# Altium footprint library my_battery.PCBLIB: 41 footprints (part 3 of 3)
Each footprint in its own frame and in the unit in brackets; x right, y up, seen from the top. Pads: shape width x height; smd on the part's side, far side on the other; paste and mask are expansions set on the pad; w line width, h text height; cw(c..) or ccw(c..) is an arc to the next point about the centre after c.
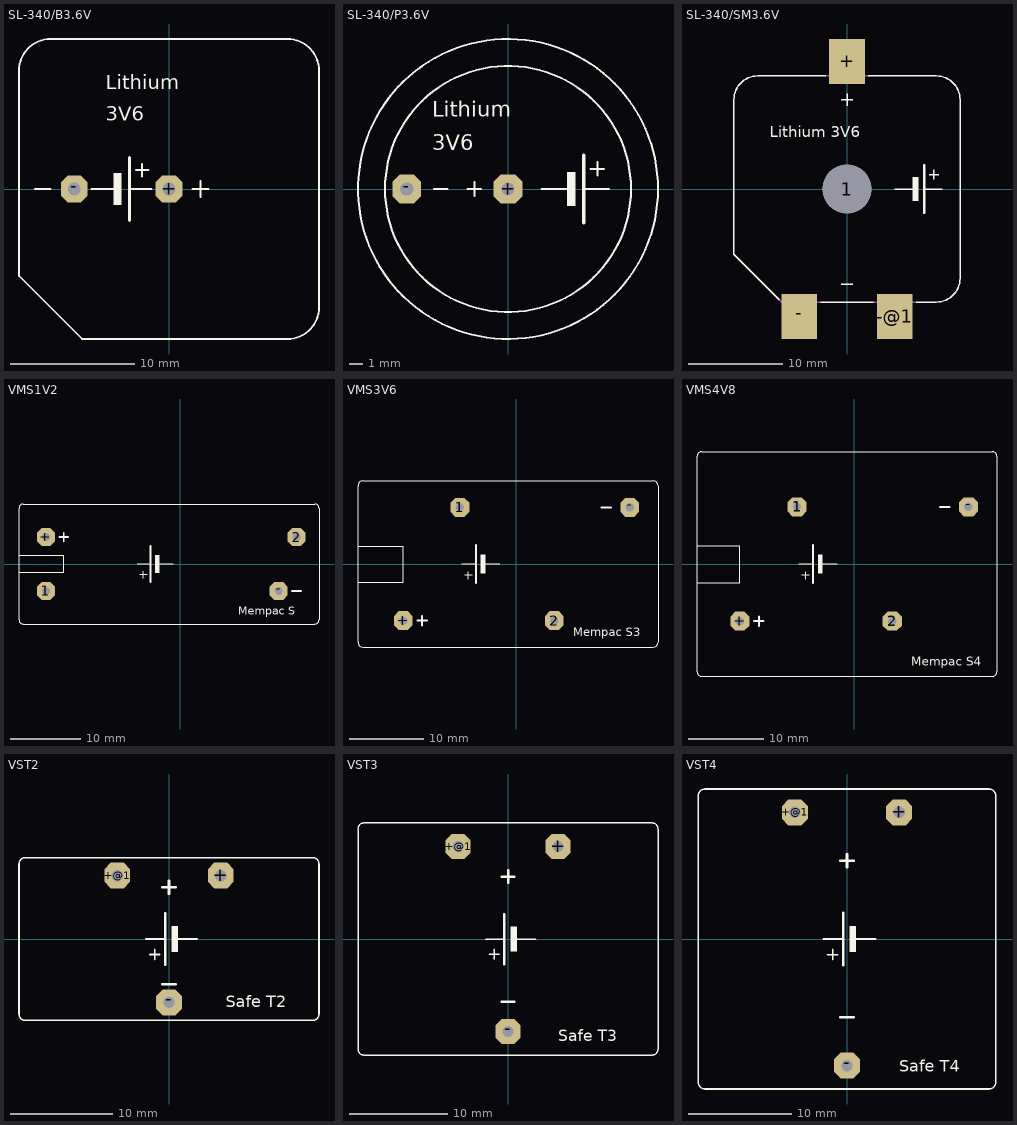
[diagram p2: the footprints below, top view; thin cyan lines are the x and y axes]

## SL-340/B3.6V [mil]
pads (2):
  oct 85x85 hole 40: +(0,0) -(-300,0)
Top Overlay:
  rectangle: -175,-50 -150,50
  lines w6: -425,0 -375,0 ; -245,0 -175,0 ; -125,0 -55,0 ; -105,60 -65,60 ; -85,40 -85,80 ; 75,0 125,0 ; 100,-25 100,25 ; -475,-275 -475,375 cw(c-375,375) -375,475 375,475 cw(c375,375) 475,375 475,-375 cw(c375,-375) 375,-475 -275,-475 -475,-275
  lines w10: -125,-100 -125,0 -125,100
  text "Lithium" at -200,300 h77.5
  text "3V6" at -200,200 h77.5

## SL-340/P3.6V [mil]
pads (2):
  oct 85x85 hole 40: +(0,0) -(-300,0)
Top Overlay:
  circle w6: c0,0 r445
  circle w6: c0,0 r365
  rectangle: 175,-50 200,50
  lines w6: -220,0 -180,0 ; -120,0 -80,0 ; -100,-20 -100,20 ; 100,0 175,0 ; 225,0 300,0 ; 245,60 285,60 ; 265,40 265,80
  lines w10: 225,-100 225,0 225,100
  text "Lithium" at -225,200 h77.5
  text "3V6" at -225,100 h77.5

## SL-340/SM3.6V [mil]
pads (4):
  round 205 hole 205: 1(0,0)
  rect 150x190 smd: +(0,535) -(-200,-535) -@1(200,-535)
Top Overlay:
  rectangle: 275,-50 300,50
  lines w6: -285,-465 -475,-275 -475,375 cw(c-375,375) -375,475 -90,475 ; -110,-475 110,-475 ; -25,-400 25,-400 ; -25,375 25,375 ; 0,350 0,400 ; 90,475 375,475 cw(c375,375) 475,375 475,-375 cw(c375,-375) 375,-475 290,-475 ; 200,0 275,0 ; 325,0 400,0 ; 345,60 385,60 ; 365,40 365,80
  lines w10: 325,-100 325,0 325,100
  text "Lithium 3V6" at -325,200 h77.5
Mechanical 12:
  text "5,2" at -50,-175 h77.5
Mechanical 16:
  lines w6: -285,-465 -275,-475 -240,-475 ; -110,-475 -160,-475 ; -90,475 -40,475 ; 90,475 40,475 ; 110,-475 160,-475 ; 290,-475 240,-475 ; -240,-475 -160,-475 ; -240,-475 -240,-590 -160,-590 -160,-475 ; -40,475 40,475 ; -40,475 -40,590 40,590 40,475 ; 160,-475 240,-475 ; 160,-475 160,-590 240,-590 240,-475

## VMS1V2 [mil]
pads (4):
  oct 100x100 hole 44: 1(-750,-150) 2(650,150) +(-750,150) -(550,-150)
Top Overlay:
  rectangle: -140,-50 -115,50
  lines w6: -240,0 -165,0 ; -225,-60 -185,-60 ; -205,-80 -205,-40 ; -115,0 -40,0 ; -900,-50 -900,-310 ccw(c-875,-310) -875,-335 750,-335 ccw(c750,-310) 775,-310 775,310 ccw(c750,310) 750,335 -875,335 ccw(c-875,310) -900,310 -900,50 ; -900,-50 -900,50 ; -900,-50 -650,-50 -650,50 -900,50
  lines w10: -675,150 -625,150 ; -650,125 -650,175 ; -165,-100 -165,0 -165,100 ; 625,-150 675,-150
  text "Mempac S" at 325,-300 h77.5

## VMS3V6 [mil]
pads (4):
  oct 100x100 hole 44: 1(-300,300) 2(200,-300) +(-600,-300) -(600,300)
Top Overlay:
  rectangle: -190,-50 -165,50
  lines w6: -290,0 -215,0 ; -275,-60 -235,-60 ; -255,-80 -255,-40 ; -165,0 -90,0 ; -840,-100 -840,-415 ccw(c-815,-415) -815,-440 725,-440 ccw(c725,-415) 750,-415 750,415 ccw(c725,415) 725,440 -815,440 ccw(c-815,415) -840,415 -840,95 ; -840,-100 -600,-100 -600,95 -840,95 ; -840,-100 -840,95
  lines w10: -525,-300 -475,-300 ; -500,-325 -500,-275 ; -215,-100 -215,0 -215,100 ; 450,300 500,300
  text "Mempac S3" at 300,-400 h77.5

## VMS4V8 [mil]
pads (4):
  oct 100x100 hole 44: 1(-300,300) 2(200,-300) +(-600,-300) -(600,300)
Top Overlay:
  rectangle: -190,-50 -165,50
  lines w6: -290,0 -215,0 ; -275,-60 -235,-60 ; -255,-80 -255,-40 ; -165,0 -90,0 ; -825,-100 -825,-565 ccw(c-800,-565) -800,-590 725,-590 ccw(c725,-565) 750,-565 750,565 ccw(c725,565) 725,590 -800,590 ccw(c-800,565) -825,565 -825,95 ; -825,-100 -600,-100 -600,95 -825,95 ; -825,-100 -825,95
  lines w10: -525,-300 -475,-300 ; -500,-325 -500,-275 ; -215,-100 -215,0 -215,100 ; 450,300 500,300
  text "Mempac S4" at 300,-550 h77.5

## VST2 [mil]
pads (3):
  oct 100x100 hole 44: +(200,245) +@1(-200,245) -(0,-245)
Top Overlay:
  rectangle: 10,-50 35,50
  lines w6: -90,0 -15,0 ; -75,-60 -35,-60 ; -55,-80 -55,-40 ; 35,0 110,0 ; -580,-290 ccw(c-555,-290) -555,-315 555,-315 ccw(c555,-290) 580,-290 580,290 ccw(c555,290) 555,315 -555,315 ccw(c-555,290) -580,290 -580,-290
  lines w10: -25,-175 25,-175 ; -25,200 25,200 ; -15,-100 -15,0 -15,100 ; 0,175 0,225
  text "Safe T2" at 220,-280 h77.5

## VST3 [mil]
pads (3):
  oct 100x100 hole 44: +(200,370) +@1(-200,370) -(0,-370)
Top Overlay:
  rectangle: 10,-50 35,50
  lines w6: -90,0 -15,0 ; -75,-60 -35,-60 ; -55,-80 -55,-40 ; 35,0 110,0 ; -600,-440 ccw(c-575,-440) -575,-465 575,-465 ccw(c575,-440) 600,-440 600,440 ccw(c575,440) 575,465 -575,465 ccw(c-575,440) -600,440 -600,-440
  lines w10: -25,-250 25,-250 ; -25,250 25,250 ; -15,-100 -15,0 -15,100 ; 0,225 0,275
  text "Safe T3" at 200,-425 h77.5

## VST4 [mil]
pads (3):
  oct 100x100 hole 44: +(200,485) +@1(-200,485) -(0,-485)
Top Overlay:
  rectangle: 10,-50 35,50
  lines w6: -90,0 -15,0 ; -75,-60 -35,-60 ; -55,-80 -55,-40 ; 35,0 110,0 ; -570,-550 ccw(c-545,-550) -545,-575 545,-575 ccw(c545,-550) 570,-550 570,550 ccw(c545,550) 545,575 -545,575 ccw(c-545,550) -570,550 -570,-550
  lines w10: -25,-300 25,-300 ; -25,300 25,300 ; -15,-100 -15,0 -15,100 ; 0,275 0,325
  text "Safe T4" at 200,-525 h77.5